# Altium footprint library PcbLib1.PcbLib: 6 footprints
Each footprint in its own frame and in the unit in brackets; x right, y up, seen from the top. Pads: shape width x height; smd on the part's side, far side on the other; paste and mask are expansions set on the pad; w line width, h text height; cw(c..) or ccw(c..) is an arc to the next point about the centre after c.
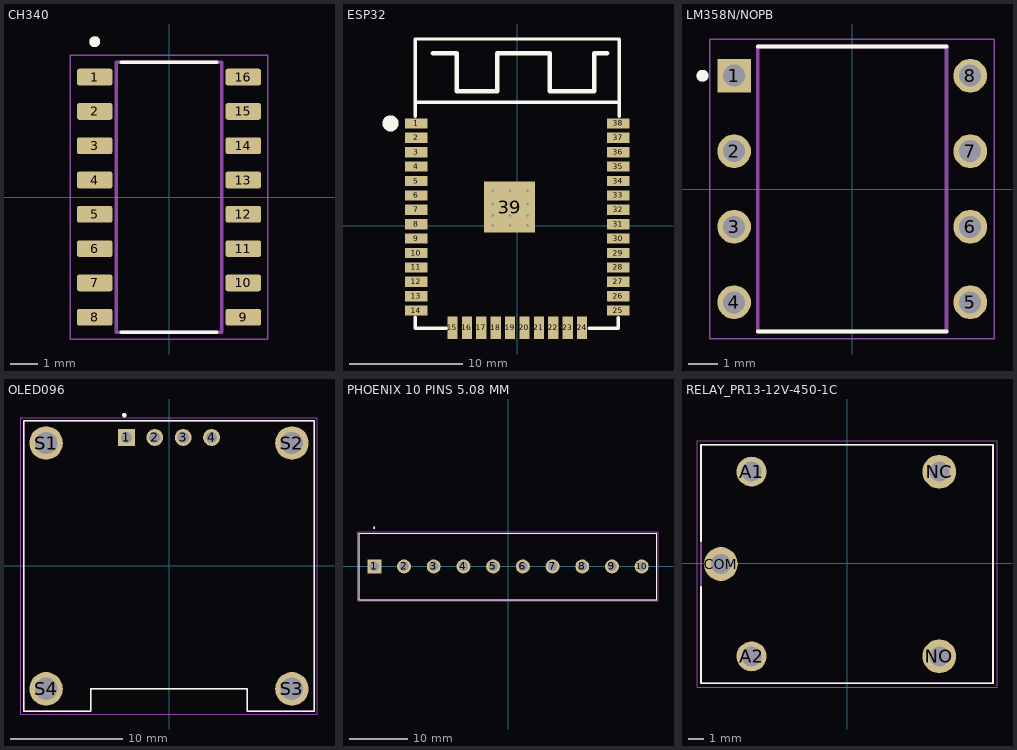
[diagram p0: the footprints below, top view; thin cyan lines are the x and y axes]

## CH340 [mm]
pads (16):
  rrect25% 1.31x0.62 smd: 1(-2.75,4.445) 2(-2.75,3.175) 3(-2.75,1.905) 4(-2.75,0.635) 5(-2.75,-0.635) 6(-2.75,-1.905) 7(-2.75,-3.175) 8(-2.75,-4.445) 9(2.75,-4.445) 10(2.75,-3.175) 11(2.75,-1.905) 12(2.75,-0.635) 13(2.75,0.635) 14(2.75,1.905) 15(2.75,3.175) 16(2.75,4.445)
Top Overlay:
  circle w0.2: c-2.75,5.755 r0.1
  lines w0.127: -1.775,-5 1.775,-5 ; -1.775,5 1.775,5
Mechanical 13:
  circle w0.2: c-2.75,5.755 r0.1
  lines w0.127: -1.95,-5 1.95,-5 1.95,5 -1.95,5 -1.95,-5
Mechanical 15:
  lines w0.05: -3.655,-5.25 3.655,-5.25 3.655,5.25 -3.655,5.25 -3.655,-5.25
3D body "step_temp.STEP": height 1.8, standoff 0, extent -3,-5 3,5

## ESP32 [mm]
pads (39):
  rect 2x0.9 smd: 1(-8.9,9.005) 2(-8.9,7.735) 3(-8.9,6.465) 4(-8.9,5.195) 5(-8.9,3.925) 6(-8.9,2.655) 7(-8.9,1.385) 8(-8.9,0.115) 9(-8.9,-1.155) 10(-8.9,-2.425) 11(-8.9,-3.695) 12(-8.9,-4.965) 13(-8.9,-6.235) 14(-8.9,-7.505) 25(8.9,-7.505) 26(8.9,-6.235) 27(8.9,-4.965) 28(8.9,-3.695) 29(8.9,-2.425) 30(8.9,-1.155) 31(8.9,0.115) 32(8.9,1.385) 33(8.9,2.655) 34(8.9,3.925) 35(8.9,5.195) 36(8.9,6.465) 37(8.9,7.735) 38(8.9,9.005)
  rect 0.9x2 smd: 15(-5.71,-9.005) 16(-4.44,-9.005) 17(-3.17,-9.005) 18(-1.9,-9.005) 19(-0.63,-9.005) 20(0.64,-9.005) 21(1.91,-9.005) 22(3.18,-9.005) 23(4.45,-9.005) 24(5.72,-9.005)
  rect 4.5x4.5 smd paste-0.115: 39(-0.675,1.615)
via -2.159,3.048 diameter 0.5 hole 0.254
via -0.635,3.048 diameter 0.5 hole 0.254
via 0.889,3.048 diameter 0.5 hole 0.254
via -2.159,1.905 diameter 0.5 hole 0.254
via -0.635,1.905 diameter 0.5 hole 0.254
via 0.889,1.905 diameter 0.5 hole 0.254
via -2.159,0.889 diameter 0.5 hole 0.254
via -0.635,0.889 diameter 0.5 hole 0.254
via 0.889,0.889 diameter 0.5 hole 0.254
via -2.159,0 diameter 0.5 hole 0.254
via -0.635,0 diameter 0.5 hole 0.254
via 0.889,0 diameter 0.5 hole 0.254
Top Overlay:
  circle w0.7: c-11.169,9.005 r0.359
  lines w0.3: -8.995,-8.064 -8.995,-9.055 -6.252,-9.055 ; -8.995,9.622 -8.995,16.445 9.005,16.445 9.005,9.639 ; -8.995,10.878 8.991,10.878 ; 6.347,-9.055 8.912,-9.055 8.912,-8.141
  lines w0.4: -7.446,15.202 -5.337,15.202 -5.337,11.849 -1.756,11.849 -1.756,15.202 2.867,15.202 2.867,11.849 6.778,11.849 6.778,15.202 7.921,15.202
3D body "ESP32-WROOM-32D--3DModel-STEP-510211.STEP": height 3.28, standoff 0.03, extent -8.979,-8.974 9.021,16.526

## LM358N/NOPB [mm]
pads (8):
  rect 1.13x1.13 / inner round 1.13 / far side rect 1.13x1.13 hole 0.74: 1(-3.97,3.81)
  round 1.13 hole 0.74: 2(-3.97,1.27) 3(-3.97,-1.27) 4(-3.97,-3.81) 5(3.97,-3.81) 6(3.97,-1.27) 7(3.97,1.27) 8(3.97,3.81)
Top Overlay:
  circle w0.2: c-5.035,3.81 r0.1
  lines w0.127: -3.175,-4.795 3.175,-4.795 ; -3.175,4.795 3.175,4.795
Mechanical 13:
  circle w0.2: c-5.035,3.81 r0.1
  lines w0.127: -3.175,-4.795 3.175,-4.795 3.175,4.795 -3.175,4.795 -3.175,-4.795
Mechanical 15:
  lines w0.05: -4.785,-5.045 4.785,-5.045 4.785,5.045 -4.785,5.045 -4.785,-5.045
3D body "step_temp.STEP": height 5.08, standoff -3.18, extent -4.095,-4.795 4.095,4.795

## OLED096 [mm]
pads (8):
  rect 1.508x1.508 / inner round 1.508 / far side rect 1.508x1.508 hole 1: 1(-3.81,11.5)
  round 1.508 hole 1: 2(-1.27,11.5) 3(1.27,11.5) 4(3.81,11.5)
  round 3 hole 2: S1(-11,11) S2(11,11) S3(11,-11) S4(-11,-11)
Top Overlay:
  circle w0.2: c-4,13.5 r0.1
  lines w0.127: -13,-13 -13,13 13,13 13,-13 7,-13 7,-11 -7,-11 -7,-13 -13,-13
Mechanical 13:
  circle w0.2: c-4,13.5 r0.1
  lines w0.127: -13,-13 -13,13 13,13 13,-13 7,-13 7,-11 -7,-11 -7,-13 -13,-13
Mechanical 15:
  lines w0.05: -13.25,-13.25 -13.25,13.25 13.25,13.25 13.25,-13.25 -13.25,-13.25
3D body "step_temp.STEP": height 5.66, standoff -5.64, extent -13,-13 13,13

## PHOENIX 10 PINS 5.08 MM [mm]
pads (10):
  rect 2.4x2.4 / inner round 2.4 / far side rect 2.4x2.4 hole 1.6: 1(-22.86,0)
  round 2.4 hole 1.6: 2(-17.78,0) 3(-12.7,0) 4(-7.62,0) 5(-2.54,0) 6(2.54,0) 7(7.62,0) 8(12.7,0) 9(17.78,0) 10(22.86,0)
Top Overlay:
  circle w0.2: c-22.86,6.64 r0.1
  lines w0.127: -25.4,-5.66 -25.4,5.64 25.4,5.64 25.4,-5.66 -25.4,-5.66
Mechanical 13:
  circle w0.2: c-22.86,6.64 r0.1
  lines w0.127: -25.4,-5.66 -25.4,5.64 25.4,5.64 25.4,-5.66 -25.4,-5.66
Mechanical 15:
  lines w0.05: -25.65,-5.91 25.65,-5.91 25.65,5.89 -25.65,5.89 -25.65,-5.91
3D body "step_temp.STEP": height 18.05, standoff -3.65, extent -25.8,-5.588 25.8,5.712

## RELAY_PR13-12V-450-1C [mm]
pads (5):
  round 1.95 hole 1.3: A1(-6.226,5.963) A2(-6.226,-6.037)
  round 2.2 hole 1.3: COM(-8.226,-0.037) NC(5.974,5.963) NO(5.974,-6.037)
Top Overlay:
  lines w0.127: -9.526,-1.537 -9.526,-7.787 9.474,-7.787 9.474,7.713 -9.526,7.713 -9.526,1.463
Mechanical 13:
  lines w0.127: -9.526,-7.787 9.474,-7.787 9.474,7.713 -9.526,7.713 -9.526,-7.787
Mechanical 15:
  lines w0.05: -9.776,-8.037 -9.776,7.963 9.724,7.963 9.724,-8.037 -9.776,-8.037
3D body "step_temp.STEP": height 15.5, standoff -3.8, extent -9.526,-7.787 9.474,7.713